# Altium footprint library industrial_fiberoptics.PcbLib: 1 footprints
Each footprint in its own frame and in the unit in brackets; x right, y up, seen from the top. Pads: shape width x height; smd on the part's side, far side on the other; paste and mask are expansions set on the pad; w line width, h text height; cw(c..) or ccw(c..) is an arc to the next point about the centre after c.
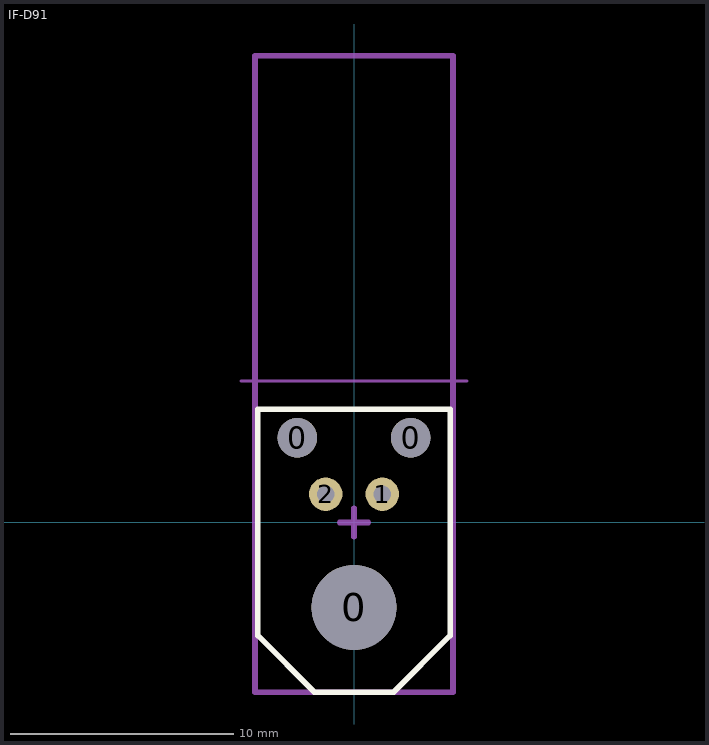
[diagram p0: the footprint, top view; thin cyan lines are the x and y axes]

## IF-D91 [mil] "PHOTODIODE FIBER OPTIC PLASTIC"
pads (5):
  round 70 hole 70 unplated: 0(-100,150) 0(100,150)
  round 150 hole 150 unplated: 0(0,-150)
  round 59.06 hole 31.5: 1(50,50) 2(-50,50)
Top Overlay:
  lines w10: -170,-200 -170,0 -170,200 170,200 170,-200 70,-300 -70,-300 -170,-200
Mechanical 8:
  lines w5: -200,250 200,250
Mechanical 15:
  lines w10: -25,0 25,0 ; 0,-25 0,25 ; -175,-300 -175,825 175,825 175,-300 -175,-300
3D body "Emitter.stp": height 444.87, standoff -372, extent -170,-276.12 169.73,816.11